# EAGLE library part NCV2951*? (library ON Semiconductor LP2950, LP2951, NCV2951)
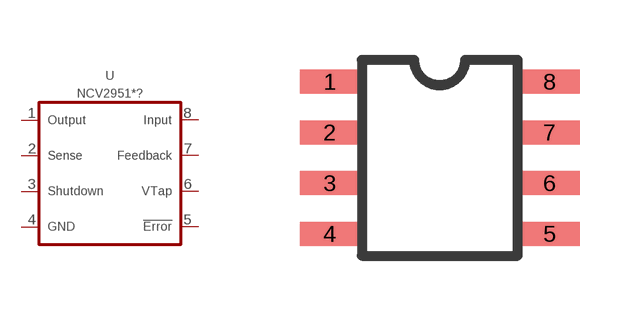
[diagram p0: symbol with the pads of SOIC-8; footprint SOIC-8]

Designator prefix U

## NCV2951ACD-3.3R2 (OUTPUT_VOLTAGE: 3.3 V; OUTPUT_VOLTAGE_PRECISION: 0.5%)  [SOIC-8]
1  OUTPUT
2  SENSE
3  SHUTDOWN
4  GND
5  ERROROUTPUT
6  VOTAP
7  FEEDBACK
8  INPUT

## NCV2951ACDR2 (OUTPUT_VOLTAGE: 5.0 V; OUTPUT_VOLTAGE_PRECISION: 0.5%), NCV2951CDR2 (OUTPUT_VOLTAGE: Adjustable; OUTPUT_VOLTAGE_PRECISION: 1%)  [SOIC-8]
Pads as for SOIC-8

## Footprint SOIC-8 (pad centres in mm)
smd 1.5 x 0.6: 1 -2.75,1.905; 2 -2.75,0.635; 3 -2.75,-0.635; 4 -2.75,-1.905; 5 2.75,-1.905; 6 2.75,-0.635; 7 2.75,0.635; 8 2.75,1.905